# Altium schematic symbol library ZYNQ7010_add.SchLib: 19 symbols
Pins are listed as number, name and electrical type; pins without a type are passive.

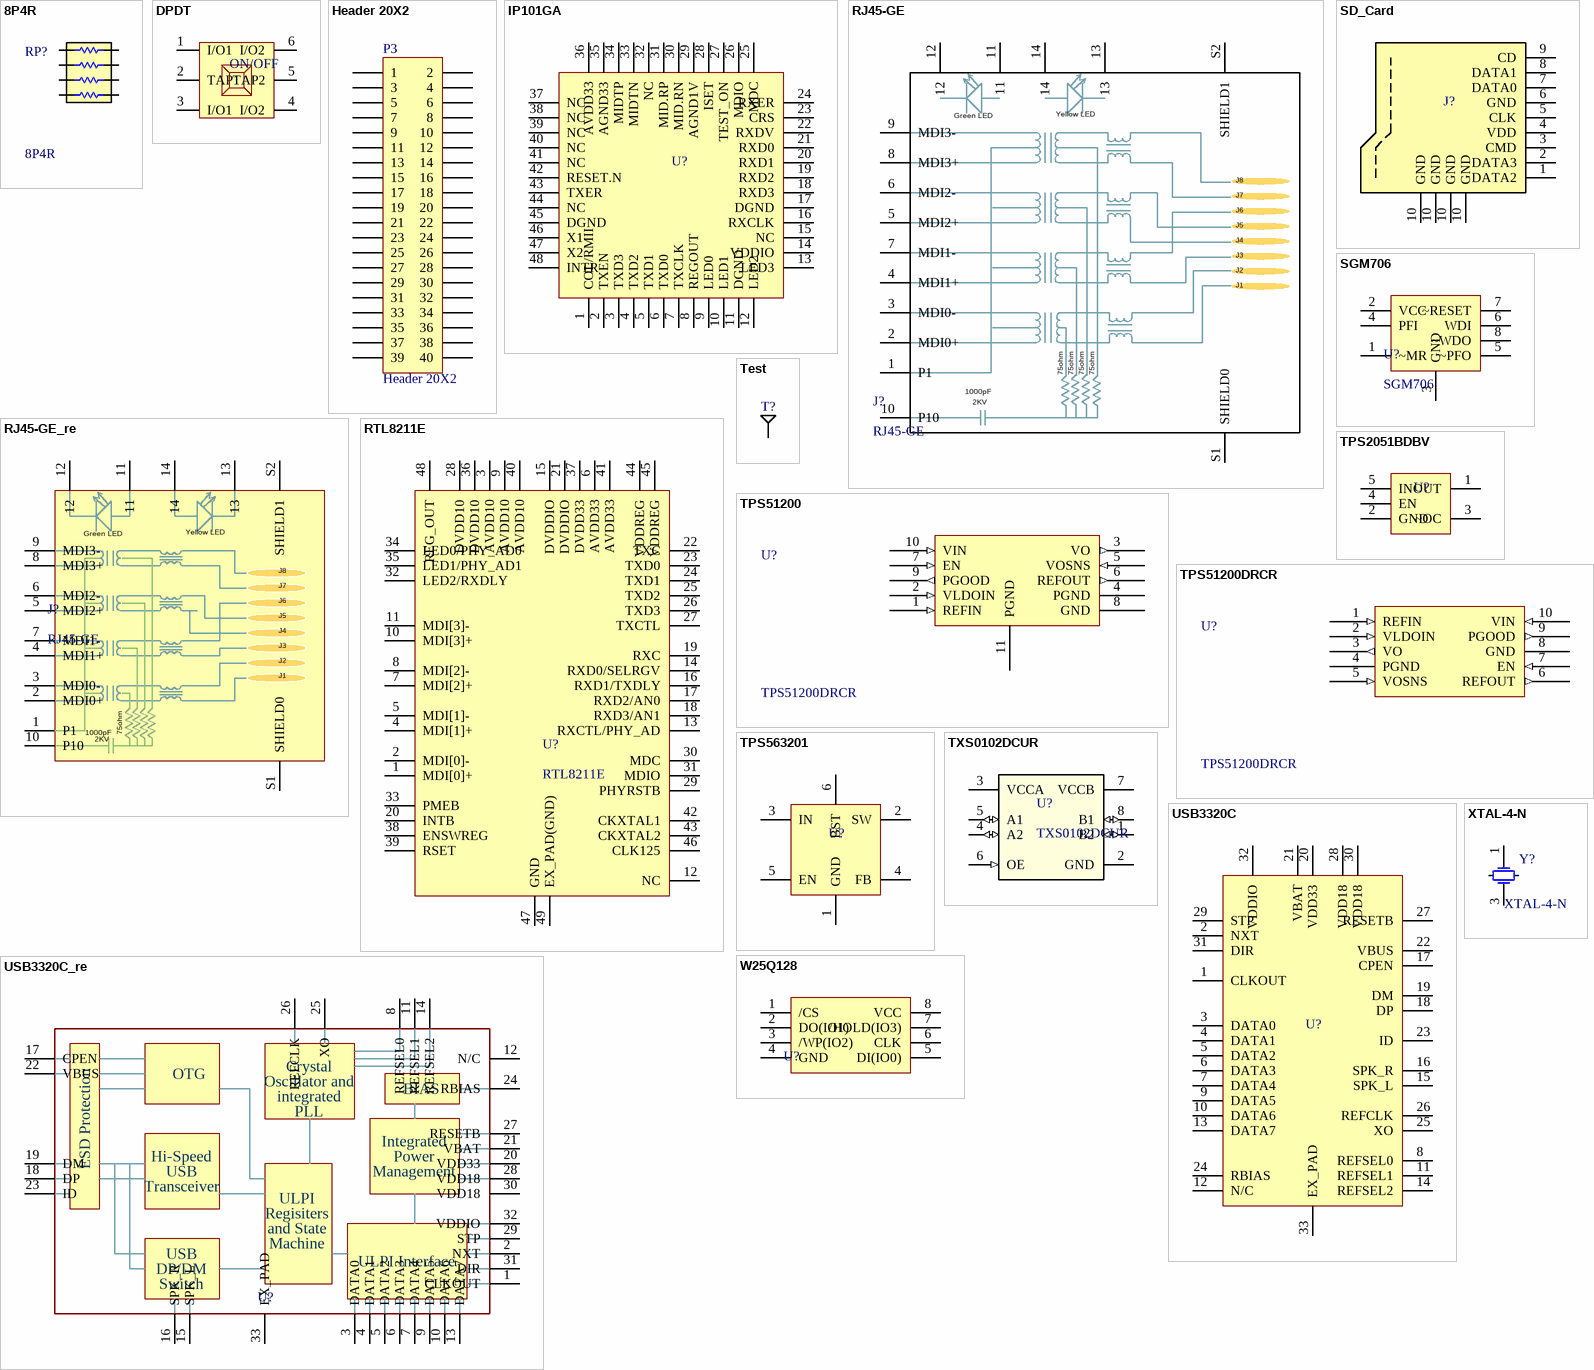
[diagram p0: symbols 8P4R to XTAL-4-N]

## 8P4R
designator RP?
贴片排阻; Manufacturer: NC; value: NC
footprint 8P4R
pins: 1, 2, 3, 4, 5, 6, 7, 8

## DPDT
designator ON/OFF, comment Button  (value not drawn)
8*8行程开关
footprint KFT DIP-8X8 (自锁开关，规格：8*8mm)
pins: 1 I/O1, 2 TAP1, 3 I/O1, 4 I/O2, 5 TAP2, 6 I/O2

## Header 20X2
designator P3
Header, 20-Pin, Dual row; LatestRevisionDate: 17-Jul-2002; LatestRevisionNote: Re-released for DXP Platform.; Publisher: Altium Limited
footprint HDR2X20 (Connector; Header; 20x2 Position)
signal-integrity model Connector
pins: 1, 2, 3, 4, 5, 6, 7, 8, 9, 10, 11, 12, 13, 14, 15, 16, 17, 18, 19, 20, 21, 22, 23, 24, 25, 26, 27, 28, 29, 30, 31, 32, 33, 34, 35, 36, 37, 38, 39, 40

## IP101GA
designator U?  (value not drawn)
ETHERNET PHY; FOOTPRINT: LQFP-48
footprint LQFP48 7X7_N (48脚，体宽7x7mm，脚距0.5mm)
pins: 1 COL/RMII, 2 TXEN, 3 TXD3, 4 TXD2, 5 TXD1, 6 TXD0, 7 TXCLK, 8 REGOUT, 9 LED0, 10 LED1, 11 DGND, 12 LED2, 13 LED3, 14 VDDIO, 15 NC, 16 RXCLK, 17 DGND, 18 RXD3, 19 RXD2, 20 RXD1, 21 RXD0, 22 RXDV, 23 CRS, 24 RXER, 25 MDC, 26 MDIO, 27 TEST_ON, 28 ISET, 29 AGND1V, 30 MID.RN, 31 MID.RP, 32 NC, 33 MIDTN, 34 MIDTP, 35 AGND33, 36 AVDD33, 37 NC, 38 NC, 39 NC, 40 NC, 41 NC, 42 RESET.N, 43 TXER, 44 NC, 45 DGND, 46 X1, 47 X2, 48 INTR

## RJ45-GE
designator J?
千兆以太网接口（带变压器）
footprint RJ45_10
pins: 1 P1, 2 MDI0+, 3 MDI0-, 4 MDI1+, 5 MDI2+, 6 MDI2-, 7 MDI1-, 8 MDI3+, 9 MDI3-, 10 P10, 11, 12, 13, 14, S1 SHIELD0, S2 SHIELD1
text: Green LED; Yellow LED; J8; J7; J6; J5; J4; J3; J2; J1; 75ohm; 1000pF; 2KV

## RJ45-GE_re
designator J?, comment RJ45-GE
千兆以太网接口（带变压器）
footprint RJ45_10
pins: 1 P1, 2 MDI0+, 3 MDI0-, 4 MDI1+, 5 MDI2+, 6 MDI2-, 7 MDI1-, 8 MDI3+, 9 MDI3-, 10 P10, 11, 12, 13, 14, S1 SHIELD0, S2 SHIELD1
text: Green LED; Yellow LED; J8; J7; J6; J5; J4; J3; J2; J1; 1000pF; 75ohm; 2KV

## RTL8211E
designator U?
Ethernet PHY / QFN48(E-VB; E-VL; EG-VB)
footprint QFN48_RTL8211 (QFN, 48-Leads, Body 6.00x6.00mm, Pitch 0.40mm, Thermal Pad 4.40x4.40mm, IPC Low Density)
pins: 1 MDI[0]+, 2 MDI[0]-, 3 AVDD10, 4 MDI[1]+, 5 MDI[1]-, 6 AVDD33, 7 MDI[2]+, 8 MDI[2]-, 9 AVDD10, 10 MDI[3]+, 11 MDI[3]-, 12 NC, 13 RXCTL/PHY_AD, 14 RXD0/SELRGV, 15 DVDDIO, 16 RXD1/TXDLY, 17 RXD2/AN0, 18 RXD3/AN1, 19 RXC, 20 INTB, 21 DVDDIO, 22 TXC, 23 TXD0, 24 TXD1, 25 TXD2, 26 TXD3, 27 TXCTL, 28 DVDD10, 29 PHYRSTB, 30 MDC, 31 MDIO, 32 LED2/RXDLY, 33 PMEB, 34 LED0/PHY_AD0, 35 LED1/PHY_AD1, 36 DVDD10, 37 DVDD33, 38 ENSWREG, 39 RSET, 40 AVDD10, 41 AVDD33, 42 CKXTAL1, 43 CKXTAL2, 44 VDDREG, 45 VDDREG, 46 CLK125, 47 GND, 48 REG_OUT, 49 EX_PAD(GND)

## SD_Card
designator J?  (value not drawn)
footprint Micro SD
pins: 1 DATA2, 2 DATA3, 3 CMD, 4 VDD, 5 CLK, 6 GND, 7 DATA0, 8 DATA1, 9 CD, 10 GND, 10 GND, 10 GND, 10 GND

## SGM706
designator U?
power supply monitoring circuitry for power on time.
footprint SOP8_N (5*6*1.8mm（长宽高）)
pins: 1 ~MR, 2 VCC, 3 GND, 4 PFI, 5 ~PFO, 6 WDI, 7 ~RESET, 8 ~WDO

## Test
designator T?  (value not drawn)
Test Point
footprint Test Point
pins: 1 Test

## TPS2051BDBV
designator U?  (value not drawn)
Current-Limited, Power-Distribution Switches
footprint SOT23-5N (3x1.6x1.1mm(长宽高))
pins: 1 OUT, 2 GND, 3 ~OC, 4 EN, 5 IN

## TPS51200
designator U?, comment TPS51200DRCR
DDR 终端稳压器; Manufacturer: TI; value: NC
footprint VSON10
footprint VSON
pins: 1 REFIN (in), 2 VLDOIN (in), 3 VO (out), 4 PGND (power), 5 VOSNS (in), 6 REFOUT (out), 7 EN (in), 8 GND (power), 9 PGOOD (out), 10 VIN (in), 11 PGND (power)

## TPS51200DRCR
designator U?
DDR 终端稳压器; Manufacturer: TI; value: NC
footprint VSON10
footprint VSON
pins: 1 REFIN (in), 2 VLDOIN (in), 3 VO (out), 4 PGND (power), 5 VOSNS (in), 6 REFOUT (out), 7 EN (in), 8 GND (power), 9 PGOOD (out), 10 VIN (in)

## TPS563201
designator U?  (value not drawn)
TPS563201, BUCK, 3A
footprint SOT23-6N (3x1.6x1.1mm(长宽高))
pins: 1 GND, 2 SW, 3 IN, 4 FB, 5 EN, 6 BST

## TXS0102DCUR
designator U?
No Description Available; Mfr_Name: Texas Instruments; Type: DEV; RefDes: RefDes; Copyright: Copyright (C) 2022 Ultra Librarian. All rights reserved.; Manufacturer_Part_Number: TXS0102DCUR
footprint DCU0008A_N
pins: 1 B2 (io), 2 GND (power), 3 VCCA (power), 4 A2 (io), 5 A1 (io), 6 OE (in), 7 VCCB (power), 8 B1 (io)

## USB3320C
designator U?  (value not drawn)
USB PHY
footprint QFN32 5x5_M (32脚，长x宽x高：5x5x0.95mm，脚距：0.5mm)
pins: 1 CLKOUT, 2 NXT, 3 DATA0, 4 DATA1, 5 DATA2, 6 DATA3, 7 DATA4, 8 REFSEL0, 9 DATA5, 10 DATA6, 11 REFSEL1, 12 N/C, 13 DATA7, 14 REFSEL2, 15 SPK_L, 16 SPK_R, 17 CPEN, 18 DP, 19 DM, 20 VDD33, 21 VBAT, 22 VBUS, 23 ID, 24 RBIAS, 25 XO, 26 REFCLK, 27 RESETB, 28 VDD18, 29 STP, 30 VDD18, 31 DIR, 32 VDDIO, 33 EX_PAD

## USB3320C_re
designator U?, comment USB3320C  (value not drawn)
USB PHY
footprint QFN32 5x5_M (32脚，长x宽x高：5x5x0.95mm，脚距：0.5mm)
pins: 1 CLKOUT, 2 NXT, 3 DATA0, 4 DATA1, 5 DATA2, 6 DATA3, 7 DATA4, 8 REFSEL0, 9 DATA5, 10 DATA6, 11 REFSEL1, 12 N/C, 13 DATA7, 14 REFSEL2, 15 SPK_L, 16 SPK_R, 17 CPEN, 18 DP, 19 DM, 20 VDD33, 21 VBAT, 22 VBUS, 23 ID, 24 RBIAS, 25 XO, 26 REFCLK, 27 RESETB, 28 VDD18, 29 STP, 30 VDD18, 31 DIR, 32 VDDIO, 33 EX_PAD
text: Crystal; OTG; Oscillator and; BIAS; integrated; PLL; ESD Protection; Integrated; Hi-Speed; Power; USB; Management; Transceiver; ULPI; Regisiters; and State; Machine; ULPI Interface; DP/DM; Switch

## W25Q128
designator U?  (value not drawn)
footprint SOP8W_L (5.3*8.3*1.8mm（长宽高）)
pins: 1 /CS, 2 DO(IO1), 3 /WP(IO2), 4 GND, 5 DI(IO0), 6 CLK, 7 /HOLD(IO3), 8 VCC

## XTAL-4-N
designator Y?
无源晶振; Manufacturer: NC; value: 25MHZ
footprint OSC 5032-4P (5mm*3.2mm*0.8mm(长*宽*高))
pins: 1 OSC1, 2, 3 OSC2, 4